# EAGLE library part M41T62 (library Clock)
Real Time Clock (RTC) IC Clock/Calendar I²C, 2-Wire Serial 8-LCC Datasheet <http://www.st.com/content/ccc/resource/technical/document/datasheet/c8/66/38/71/c4/ac/49/9e/CD00019860.pdf/files/CD00019860.pdf/jcr:content/translations/en.CD00019860.pdf>
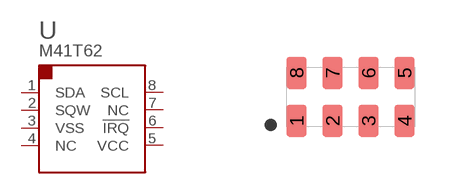
[diagram p3: symbol with the pads of LCC-8; footprint LCC-8]

Designator prefix U

## M41T62LC6  [LCC-8]
1  SDA
2  SQW  out
3  VSS  pwr
4  NC  nc
5  VCC  pwr
6  !IRQ  out
7  NC  nc
8  SCL  in

## Footprint LCC-8 (pad centres in mm)
LCC 8 — 8-pin, 1.5 x 3.2 mm leadless chip carrier package
smd 0.5 x 0.8: 1 -1.35,-0.6; 2 -0.45,-0.6; 3 0.45,-0.6; 4 1.35,-0.6; 5 1.35,0.6; 6 0.45,0.6; 7 -0.45,0.6; 8 -1.35,0.6